# EAGLE library part MEC1-105-02-XX-XX-D-A (library epic)
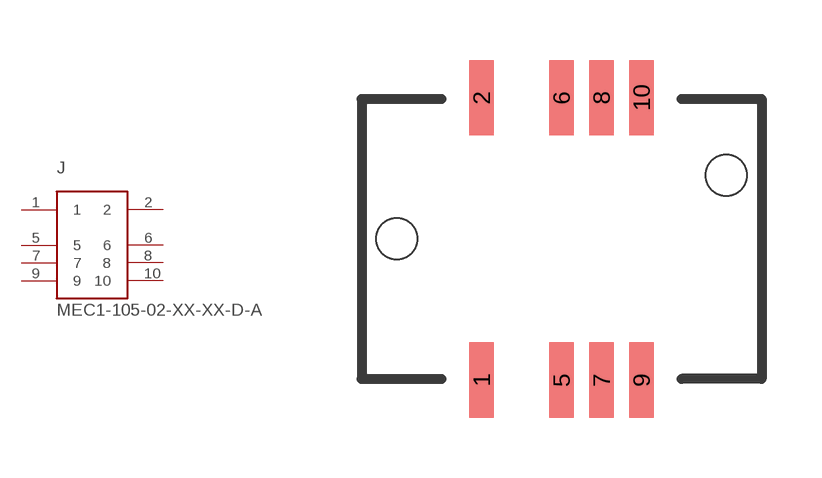
[diagram p29: symbol with the pads of MEC1-105-02-XX-XX-D-A; footprint MEC1-105-02-XX-XX-D-A]

Designator prefix J

## MEC1-105-02-XX-XX-D-A  [MEC1-105-02-XX-XX-D-A]
1  1
2  2
5  5
6  6
7  7
8  8
9  9
10  10

## Footprint MEC1-105-02-XX-XX-D-A (pad centres in mm)
smd 0.61 x 1.88: 1 -2,-3.53; 2 -2,3.53; 5 0,-3.53; 6 0,3.53; 7 1,-3.53; 8 1,3.53; 9 2,-3.53; 10 2,3.53
hole 1.02 at -4.12,0
hole 1.02 at 4.12,1.588